# Altium integrated library Infineon_Power_Smart_Low-Side_&_High-Side_Switches.IntLib: 238 symbols (part 10 of 14)
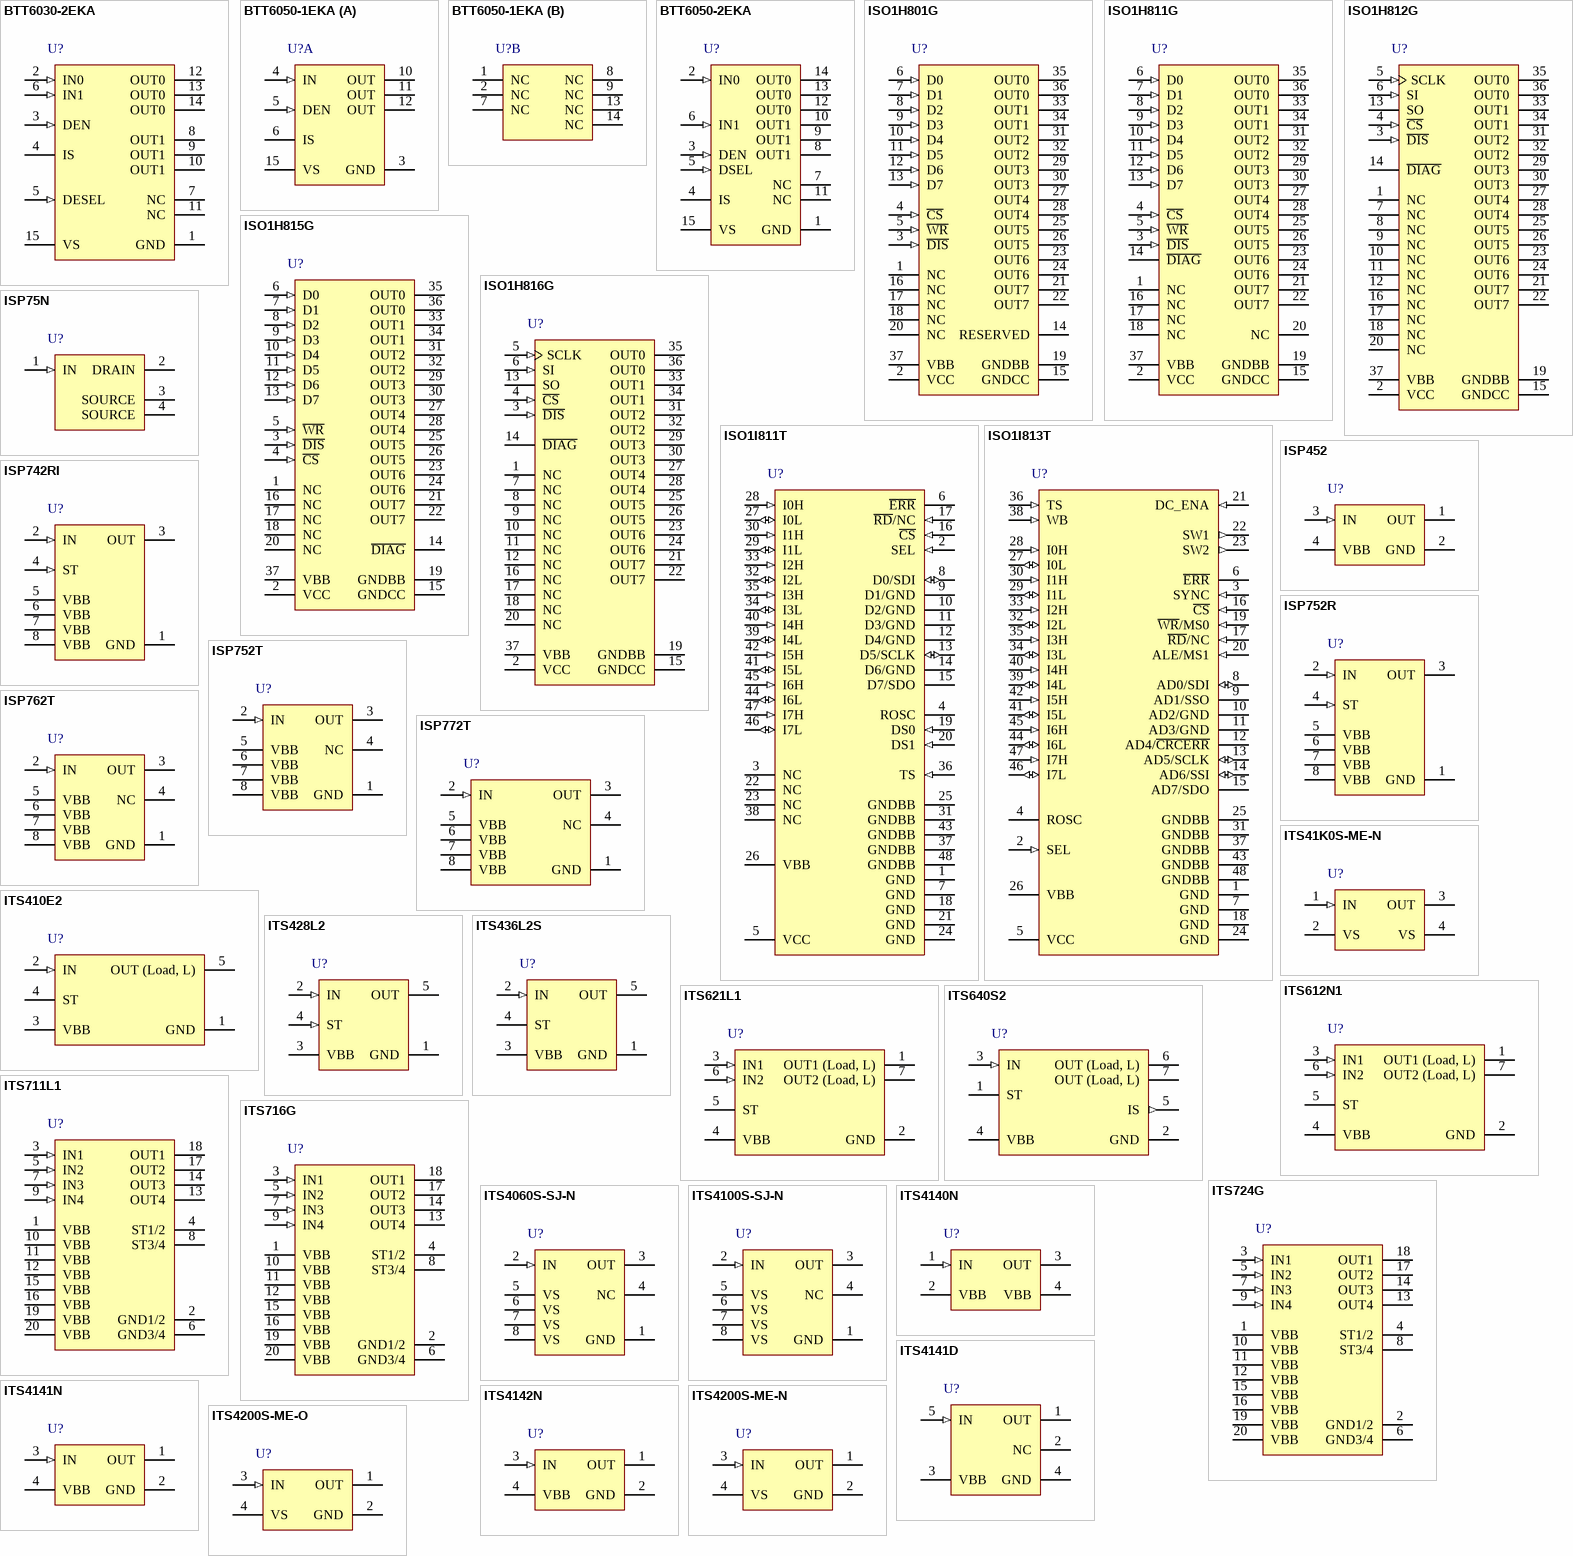
[diagram p16: symbols BTT6030-2EKA to ITS4200S-ME-O]

## ISO1H811G
designator U?
Galvanic Isolated 8 Channel High-Side Switch, -50 to 150 degC, PG-DSO-36-10, Reel, Green; Manufacturer: Infineon; PartNumber: ISO1H811G; Green: TRUE; DatasheetVersion: Rev. 2.4; PackageVersion: Rev. 2.0, 07/2007; PackageReference: PG-DSO-36-10; PackageDescription: 36-Pin Plastic (Green) Dual Small Outline Package, 15.9 x 11 mm, Pitch 0.65 mm; Supplier 1: Mouser; Supplier Part Number 1: 726-ISO1H811G; Supplier 2: Newark; Supplier Part Number 2: 78X5186; Supplier 3: Farnell; Supplier Part Number 3: 2432507; Supplier 4: Digi-Key; Supplier Part Number 4: ISO1H811GTR-ND; Supplier 5: Digi-Key; Supplier Part Number 5: ISO1H811GCT-ND; Supplier 6: Digi-Key; Supplier Part Number 6: ISO1H811GDKR-ND; Halogen-free: TRUE; Packing: Reel; Mounting Technology: Surface Mount; Code_JEDEC: J-STD-020; ComponentLink1Description: Manufacturer URL; ComponentLink1URL: http://www.infineon.com/; ComponentLink2Description: Datasheet; ComponentLink2URL: http://www.infineon.com/dgdl/Datasheet_ISO1H811G_V23.pdf?folderId=db3a30431b3e89eb011b8dbc543010a5&fileId=db3a304320896aa201208af1f76c0075; ComponentLink3Description: Package Specification; ComponentLink3URL: http://www.infineon.com/dgdl/TLE6280GP_DS_V20.pdf?folderId=db3a3043156fd5730116144c5d101c30&fileId=db3a304318f3fe290118f4abcb910003&sId=db3a30433e0d3017013e13ebcf6d0de4
footprint INF-PG-DSO-36-10_N (SOP, 36-Leads, Body 15.9x11mm, Pitch 0.65mm, Thermal Pad 15.84x6mm, IPC Medium Density)
footprint INF-PG-DSO-36-10_L (SOP, 36-Leads, Body 15.9x11mm, Pitch 0.65mm, Thermal Pad 15.84x6mm, IPC High Density)
footprint INF-PG-DSO-36-10_M (SOP, 36-Leads, Body 15.9x11mm, Pitch 0.65mm, Thermal Pad 15.84x6mm, IPC Low Density)
pins: 1 NC "Not connected", 2 VCC (power) "Positive 3.3/5V logic supply", 3 ~{DIS} (in) "Output disable", 4 ~{CS} (in) "Chip select", 5 ~{WR} (in) "Parallel write", 6 D0 (in) "Data input bit0", 7 D1 (in) "Data input bit1", 8 D2 (in) "Data input bit2", 9 D3 (in) "Data input bit3", 10 D4 (in) "Data input bit4", 11 D5 (in) "Data input bit5", 12 D6 (in) "Data input bit6", 13 D7 (in) "Data input bit7", 14 ~{DIAG} (oc) "Common diagnostic output for  overtemperature", 15 GNDCC (power) "Input logic ground", 16 NC "Not connected", 17 NC "Not connected", 18 NC "Not connected", 19 GNDBB (power) "Output driver ground", 20 NC "Not connected", 21 OUT7 (power) "High-side output of channel 7", 22 OUT7 (power) "High-side output of channel 7", 23 OUT6 (power) "High-side output of channel 6", 24 OUT6 (power) "High-side output of channel 6", 25 OUT5 (power) "High-side output of channel 5", 26 OUT5 (power) "High-side output of channel 5", 27 OUT4 (power) "High-side output of channel 4", 28 OUT4 (power) "High-side output of channel 4", 29 OUT3 (power) "High-side output of channel 3", 30 OUT3 (power) "High-side output of channel 3", 31 OUT2 (power) "High-side output of channel 2", 32 OUT2 (power) "High-side output of channel 2", 33 OUT1 (power) "High-side output of channel 1", 34 OUT1 (power) "High-side output of channel 1", 35 OUT0 (power) "High-side output of channel 0", 36 OUT0 (power) "High-side output of channel 0", 37 VBB (power) "Positive driver power supply voltage"

## ISO1H812G
designator U?
Galvanic Isolated 8 Channel High-Side Switch, -50 to 150 degC, PG-DSO-36-10, Reel, Green; Manufacturer: Infineon; PartNumber: ISO1H812G; Green: TRUE; DatasheetVersion: Rev. 2.5; PackageVersion: Rev. 2.0, 07/2007; PackageReference: PG-DSO-36-10; PackageDescription: 36-Pin Plastic (Green) Dual Small Outline Package, 15.9 x 11 mm, Pitch 0.65 mm; Supplier 1: Mouser; Supplier Part Number 1: 726-ISO1H812G; Supplier 2: Newark; Supplier Part Number 2: 78X5187; Supplier 3: Farnell; Supplier Part Number 3: 2432508; Supplier 4: Digi-Key; Supplier Part Number 4: ISO1H812GTR-ND; Supplier 5: Digi-Key; Supplier Part Number 5: ISO1H812GCT-ND; Supplier 6: Digi-Key; Supplier Part Number 6: ISO1H812GDKR-ND; Halogen-free: TRUE; Packing: Reel; Mounting Technology: Surface Mount; Code_JEDEC: J-STD-020; ComponentLink1Description: Manufacturer URL; ComponentLink1URL: http://www.infineon.com/; ComponentLink2Description: Datasheet; ComponentLink2URL: http://www.infineon.com/dgdl/Datasheet_ISO1H812G_V24.pdf?folderId=db3a30431b3e89eb011b8dbc543010a5&fileId=db3a304320896aa201208afa6861007a; ComponentLink3Description: Package Specification; ComponentLink3URL: http://www.infineon.com/dgdl/TLE6280GP_DS_V20.pdf?folderId=db3a3043156fd5730116144c5d101c30&fileId=db3a304318f3fe290118f4abcb910003&sId=db3a30433e0d3017013e13ebcf6d0de4
footprint INF-PG-DSO-36-10_N (SOP, 36-Leads, Body 15.9x11mm, Pitch 0.65mm, Thermal Pad 15.84x6mm, IPC Medium Density)
footprint INF-PG-DSO-36-10_L (SOP, 36-Leads, Body 15.9x11mm, Pitch 0.65mm, Thermal Pad 15.84x6mm, IPC High Density)
footprint INF-PG-DSO-36-10_M (SOP, 36-Leads, Body 15.9x11mm, Pitch 0.65mm, Thermal Pad 15.84x6mm, IPC Low Density)
pins: 1 NC "Not connected", 2 VCC (power) "Positive 3.3/5V logic supply", 3 ~{DIS} (in) "Output disable", 4 ~{CS} (in) "Chip select", 5 SCLK (in) "Serial Clock", 6 SI (in) "Serial Data input", 7 NC "Not connected", 8 NC "Not connected", 9 NC "Not connected", 10 NC "Not connected", 11 NC "Not connected", 12 NC "Not connected", 13 SO (hiz) "Serial Data Output", 14 ~{DIAG} (oc) "Common diagnostic output for  overtemperature", 15 GNDCC (power) "Input logic ground", 16 NC "Not connected", 17 NC "Not connected", 18 NC "Not connected", 19 GNDBB (power) "Output driver ground", 20 NC "Not connected", 21 OUT7 (power) "High-side output of channel 7", 22 OUT7 (power) "High-side output of channel 7", 23 OUT6 (power) "High-side output of channel 6", 24 OUT6 (power) "High-side output of channel 6", 25 OUT5 (power) "High-side output of channel 5", 26 OUT5 (power) "High-side output of channel 5", 27 OUT4 (power) "High-side output of channel 4", 28 OUT4 (power) "High-side output of channel 4", 29 OUT3 (power) "High-side output of channel 3", 30 OUT3 (power) "High-side output of channel 3", 31 OUT2 (power) "High-side output of channel 2", 32 OUT2 (power) "High-side output of channel 2", 33 OUT1 (power) "High-side output of channel 1", 34 OUT1 (power) "High-side output of channel 1", 35 OUT0 (power) "High-side output of channel 0", 36 OUT0 (power) "High-side output of channel 0", 37 VBB (power) "Positive driver power supply voltage"

## ISO1H815G
designator U?
Galvanic Isolated 8 Channel High-Side Switch, -50 to 150 degC, PG-DSO-36-10, Reel, Green; Manufacturer: Infineon; PartNumber: ISO1H815G; Green: TRUE; DatasheetVersion: Rev. 2.3; PackageVersion: Rev. 2.0, 07/2007; PackageReference: PG-DSO-36-10; PackageDescription: 36-Pin Plastic (Green) Dual Small Outline Package, 15.9 x 11 mm, Pitch 0.65 mm; Supplier 1: Mouser; Supplier Part Number 1: 726-ISO1H815G; Supplier 2: Newark; Supplier Part Number 2: 78X5188; Supplier 3: Farnell; Supplier Part Number 3: 2432509; Supplier 4: Digi-Key; Supplier Part Number 4: ISO1H815GTR-ND; Supplier 5: Digi-Key; Supplier Part Number 5: ISO1H815GCT-ND; Supplier 6: Digi-Key; Supplier Part Number 6: ISO1H815GDKR-ND; Halogen-free: TRUE; Packing: Reel; Mounting Technology: Surface Mount; Code_JEDEC: J-STD-020; ComponentLink1Description: Manufacturer URL; ComponentLink1URL: http://www.infineon.com/; ComponentLink2Description: Datasheet; ComponentLink2URL: http://www.infineon.com/dgdl/Datasheet_ISO1H815G_V22.pdf?folderId=db3a30431b3e89eb011b8dbc543010a5&fileId=db3a304320d39d590120f6ed7d956a76; ComponentLink3Description: Package Specification; ComponentLink3URL: http://www.infineon.com/dgdl/TLE6280GP_DS_V20.pdf?folderId=db3a3043156fd5730116144c5d101c30&fileId=db3a304318f3fe290118f4abcb910003&sId=db3a30433e0d3017013e13ebcf6d0de4
footprint INF-PG-DSO-36-10_N (SOP, 36-Leads, Body 15.9x11mm, Pitch 0.65mm, Thermal Pad 15.84x6mm, IPC Medium Density)
footprint INF-PG-DSO-36-10_L (SOP, 36-Leads, Body 15.9x11mm, Pitch 0.65mm, Thermal Pad 15.84x6mm, IPC High Density)
footprint INF-PG-DSO-36-10_M (SOP, 36-Leads, Body 15.9x11mm, Pitch 0.65mm, Thermal Pad 15.84x6mm, IPC Low Density)
pins: 1 NC "Not connected", 2 VCC (power) "Positive 3.3/5V logic supply", 3 ~{DIS} (in) "Output disable", 4 ~{CS} (in) "Chip select", 5 ~{WR} (in) "Parallel write", 6 D0 (in) "Data input bit0", 7 D1 (in) "Data input bit1", 8 D2 (in) "Data input bit2", 9 D3 (in) "Data input bit3", 10 D4 (in) "Data input bit4", 11 D5 (in) "Data input bit5", 12 D6 (in) "Data input bit6", 13 D7 (in) "Data input bit7", 14 ~{DIAG} (oc) "Common diagnostic output for  overtemperature", 15 GNDCC (power) "Input logic ground", 16 NC "Not connected", 17 NC "Not connected", 18 NC "Not connected", 19 GNDBB (power) "Output driver ground", 20 NC "Not connected", 21 OUT7 (power) "High-side output of channel 7", 22 OUT7 (power) "High-side output of channel 7", 23 OUT6 (power) "High-side output of channel 6", 24 OUT6 (power) "High-side output of channel 6", 25 OUT5 (power) "High-side output of channel 5", 26 OUT5 (power) "High-side output of channel 5", 27 OUT4 (power) "High-side output of channel 4", 28 OUT4 (power) "High-side output of channel 4", 29 OUT3 (power) "High-side output of channel 3", 30 OUT3 (power) "High-side output of channel 3", 31 OUT2 (power) "High-side output of channel 2", 32 OUT2 (power) "High-side output of channel 2", 33 OUT1 (power) "High-side output of channel 1", 34 OUT1 (power) "High-side output of channel 1", 35 OUT0 (power) "High-side output of channel 0", 36 OUT0 (power) "High-side output of channel 0", 37 VBB (power) "Positive driver power supply voltage"

## ISO1H816G
designator U?
Galvanic Isolated 8 Channel High-Side Switch, -50 to 150 degC, PG-DSO-36-10, Reel, Green; Manufacturer: Infineon; PartNumber: ISO1H816G; Green: TRUE; DatasheetVersion: Rev. 2.3; PackageVersion: Rev. 2.0, 07/2007; PackageReference: PG-DSO-36-10; PackageDescription: 36-Pin Plastic (Green) Dual Small Outline Package, 15.9 x 11 mm, Pitch 0.65 mm; Supplier 1: Mouser; Supplier Part Number 1: 726-ISO1H816G; Supplier 2: Newark; Supplier Part Number 2: 78X5189; Supplier 3: Farnell; Supplier Part Number 3: 2432510; Supplier 4: Digi-Key; Supplier Part Number 4: ISO1H816GTR-ND; Supplier 5: Digi-Key; Supplier Part Number 5: ISO1H816GCT-ND; Supplier 6: Digi-Key; Supplier Part Number 6: ISO1H816GDKR-ND; Halogen-free: TRUE; Packing: Reel; Mounting Technology: Surface Mount; Code_JEDEC: J-STD-020; ComponentLink1Description: Manufacturer URL; ComponentLink1URL: http://www.infineon.com/; ComponentLink2Description: Datasheet; ComponentLink2URL: http://www.infineon.com/dgdl/Datasheet_ISO1H816G_V22.pdf?folderId=db3a30431b3e89eb011b8dbc543010a5&fileId=db3a304320d39d590120f700bb736a89; ComponentLink3Description: Package Specification; ComponentLink3URL: http://www.infineon.com/dgdl/TLE6280GP_DS_V20.pdf?folderId=db3a3043156fd5730116144c5d101c30&fileId=db3a304318f3fe290118f4abcb910003&sId=db3a30433e0d3017013e13ebcf6d0de4
footprint INF-PG-DSO-36-10_N (SOP, 36-Leads, Body 15.9x11mm, Pitch 0.65mm, Thermal Pad 15.84x6mm, IPC Medium Density)
footprint INF-PG-DSO-36-10_L (SOP, 36-Leads, Body 15.9x11mm, Pitch 0.65mm, Thermal Pad 15.84x6mm, IPC High Density)
footprint INF-PG-DSO-36-10_M (SOP, 36-Leads, Body 15.9x11mm, Pitch 0.65mm, Thermal Pad 15.84x6mm, IPC Low Density)
pins: 1 NC "Not connected", 2 VCC (power) "Positive 3.3/5V logic supply", 3 ~{DIS} (in) "Output disable", 4 ~{CS} (in) "Chip select", 5 SCLK (in) "Serial Clock", 6 SI (in) "Serial Data input", 7 NC "Not connected", 8 NC "Not connected", 9 NC "Not connected", 10 NC "Not connected", 11 NC "Not connected", 12 NC "Not connected", 13 SO (hiz) "Serial Data Output", 14 ~{DIAG} (oc) "Common diagnostic output for  overtemperature", 15 GNDCC (power) "Input logic ground", 16 NC "Not connected", 17 NC "Not connected", 18 NC "Not connected", 19 GNDBB (power) "Output driver ground", 20 NC "Not connected", 21 OUT7 (power) "High-side output of channel 7", 22 OUT7 (power) "High-side output of channel 7", 23 OUT6 (power) "High-side output of channel 6", 24 OUT6 (power) "High-side output of channel 6", 25 OUT5 (power) "High-side output of channel 5", 26 OUT5 (power) "High-side output of channel 5", 27 OUT4 (power) "High-side output of channel 4", 28 OUT4 (power) "High-side output of channel 4", 29 OUT3 (power) "High-side output of channel 3", 30 OUT3 (power) "High-side output of channel 3", 31 OUT2 (power) "High-side output of channel 2", 32 OUT2 (power) "High-side output of channel 2", 33 OUT1 (power) "High-side output of channel 1", 34 OUT1 (power) "High-side output of channel 1", 35 OUT0 (power) "High-side output of channel 0", 36 OUT0 (power) "High-side output of channel 0", 37 VBB (power) "Positive driver power supply voltage"

## ISO1I811T
designator U?
Isolated 8 Channel Digital Input with IEC61131-2 Type 1/2/3 Characteristics, -40 to 125 degC, PG-TSSOP-48-2, Reel, Green; Manufacturer: Infineon; PartNumber: ISO1I811T; Green: TRUE; DatasheetVersion: Rev. 2.0; PackageVersion: Rev. 03, 06/2011; PackageReference: PG-TSSOP-48-2; PackageDescription: 48-Pin Plastic (Green) Thin Shrink Small Outline Package, 12.5 x 6.1 mm Body, 0.5 mm Pitch; Supplier 1: Newark; Supplier Part Number 1: 78X5190; Supplier 2: Farnell; Supplier Part Number 2: 2432511; Supplier 3: Digi-Key; Supplier Part Number 3: ISO1I811TTR-ND; Supplier 4: Digi-Key; Supplier Part Number 4: ISO1I811TCT-ND; Supplier 5: Digi-Key; Supplier Part Number 5: ISO1I811TDKR-ND; Halogen-free: TRUE; Packing: Reel; Mounting Technology: Surface Mount; ComponentLink1Description: Manufacturer URL; ComponentLink1URL: http://www.infineon.com/; ComponentLink2Description: Datasheet; ComponentLink2URL: http://www.infineon.com/dgdl/ISO1I811T_DS_V20.pdf?folderId=db3a30431b3e89eb011b8dbc543010a5&fileId=db3a30432ea425a4012ed83864253845; ComponentLink3Description: Package Specification; ComponentLink3URL: http://www.infineon.com/dgdl/ISO1I811T_DS_V20.pdf?folderId=db3a30431b3e89eb011b8dbc543010a5&fileId=db3a30432ea425a4012ed83864253845
footprint INF-PG-TSSOP-48-2_N (SOP, 48-Leads, Body 12.5x6.1mm, Pitch 0.5mm, IPC Medium Density)
footprint INF-PG-TSSOP-48-2_L (SOP, 48-Leads, Body 12.5x6.1mm, Pitch 0.5mm, IPC High Density)
footprint INF-PG-TSSOP-48-2_M (SOP, 48-Leads, Body 12.5x6.1mm, Pitch 0.5mm, IPC Low Density)
pins: 1 GND (power) "Logic Ground", 2 SEL (in) "Serial Parallel Mode Select", 3 NC "not connected", 4 ROSC "Clock Frequency Adjustment", 5 VCC (power) "Positive 5/3.3V logic supply", 6 ~{ERR} (oc) "Error output", 7 GND (power) "Logic Ground", 8 D0/SDI (io), 9 D1/GND (hiz), 10 D2/GND (hiz), 11 D3/GND (hiz), 12 D4/GND (hiz), 13 D5/SCLK (io), 14 D6/GND (hiz), 15 D7/SDO (hiz), 16 ~{CS} (in) "Chip Select", 17 ~{RD}/NC (in), 18 GND (power) "Logic Ground", 19 DS0 (in) "Filter Select Input 0", 20 DS1 (in) "Filter Select Input 1", 21 GND (power) "Logic Ground", 22 NC "not connected", 23 NC "not connected", 24 GND (power) "Logic Ground", 25 GNDBB (power) "Input Ground", 26 VBB (power) "Positive input supply voltage", 27 I0L (io) "Input 0 Low, LED Out", 28 I0H (in) "Input 0 High", 29 I1L (io) "Input 1 Low, LED Out", 30 I1H (in) "Input 1 High", 31 GNDBB (power) "Input Ground", 32 I2L (io) "Input 2 Low, LED Out", 33 I2H (in) "Input 2 High", 34 I3L (io) "Input 3 Low, LED Out", 35 I3H (in) "Input 3 High", 36 TS (in) "Sensor Type 1/2/3 Select", 37 GNDBB (power) "Input Ground", 38 NC "not connected", 39 I4L (io) "Input 4 Low, LED Out", 40 I4H (in) "Input 4 High", 41 I5L (io) "Input 5 Low, LED Out", 42 I5H (in) "Input 5 High", 43 GNDBB (power) "Input Ground", 44 I6L (io) "Input 6 Low, LED Out", 45 I6H (in) "Input 6 High", 46 I7L (io) "Input 7 Low, LED Out", 47 I7H (in) "Input 7 High", 48 GNDBB (power) "Input Ground"

## ISO1I813T
designator U?
Isolated 8 Channel Digital Input with IEC61131-2 Type 1/2/3 Characteristics, -40 to 125 degC, PG-TSSOP-48-2, Reel, Green; Manufacturer: Infineon; PartNumber: ISO1I813T; Green: TRUE; DatasheetVersion: Rev. 2.0; PackageVersion: Rev. 03, 06/2011; PackageReference: PG-TSSOP-48-2; PackageDescription: 48-Pin Plastic (Green) Thin Shrink Small Outline Package, 12.5 x 6.1 mm Body, 0.5 mm Pitch; Supplier 1: Newark; Supplier Part Number 1: 78X5191; Supplier 2: Farnell; Supplier Part Number 2: 2432512; Supplier 3: Digi-Key; Supplier Part Number 3: ISO1I813TTR-ND; Supplier 4: Digi-Key; Supplier Part Number 4: ISO1I813TCT-ND; Supplier 5: Digi-Key; Supplier Part Number 5: ISO1I813TDKR-ND; Halogen-free: TRUE; Packing: Reel; Mounting Technology: Surface Mount; ComponentLink1Description: Manufacturer URL; ComponentLink1URL: http://www.infineon.com/; ComponentLink2Description: Datasheet; ComponentLink2URL: http://www.infineon.com/dgdl/Preliminary_Datasheet_ISO1I813T_V10.pdf?folderId=db3a30431b3e89eb011b8dbc543010a5&fileId=db3a30432ee77f32012f0ae5c60a10fe; ComponentLink3Description: Package Specification; ComponentLink3URL: http://www.infineon.com/dgdl/ISO1I811T_DS_V20.pdf?folderId=db3a30431b3e89eb011b8dbc543010a5&fileId=db3a30432ea425a4012ed83864253845
footprint INF-PG-TSSOP-48-2_N (SOP, 48-Leads, Body 12.5x6.1mm, Pitch 0.5mm, IPC Medium Density)
footprint INF-PG-TSSOP-48-2_L (SOP, 48-Leads, Body 12.5x6.1mm, Pitch 0.5mm, IPC High Density)
footprint INF-PG-TSSOP-48-2_M (SOP, 48-Leads, Body 12.5x6.1mm, Pitch 0.5mm, IPC Low Density)
pins: 1 GND (power) "Logic Ground", 2 SEL (in) "Serial Parallel Mode Select", 3 SYNC (in) "Freeze Data & Diagnostics", 4 ROSC "Clock Frequency Adjustment", 5 VCC (power) "Positive 5/3.3V logic supply", 6 ~{ERR} (oc) "Error output", 7 GND (power) "Logic Ground", 8 AD0/SDI (io), 9 AD1/SSO (hiz), 10 AD2/GND (hiz), 11 AD3/GND (hiz), 12 AD4/~{CRCERR} (hiz), 13 AD5/SCLK (io), 14 AD6/SSI (io), 15 AD7/SDO (hiz), 16 ~{CS} (in) "Chip Select", 17 ~{RD}/NC (in), 18 GND (power) "Logic Ground", 19 ~{WR}/MS0 (in), 20 ALE/MS1 (in), 21 DC_ENA (in) "DC-DC Supply Enable", 22 SW1 (out) "DC-DC Switch Output 1", 23 SW2 (out) "DC-DC Switch Output 2", 24 GND (power) "Logic Ground", 25 GNDBB (power) "Input Ground", 26 VBB (power) "Positive input supply voltage", 27 I0L (io) "Input 0 Low, LED Out", 28 I0H (in) "Input 0 High", 29 I1L (io) "Input 1 Low, LED Out", 30 I1H (in) "Input 1 High", 31 GNDBB (power) "Input Ground", 32 I2L (io) "Input 2 Low, LED Out", 33 I2H (in) "Input 2 High", 34 I3L (io) "Input 3 Low, LED Out", 35 I3H (in) "Input 3 High", 36 TS (in) "Sensor Type 1/2/3 Select", 37 GNDBB (power) "Input Ground", 38 WB (in) "Wire Break Select", 39 I4L (io) "Input 4 Low, LED Out", 40 I4H (in) "Input 4 High", 41 I5L (io) "Input 5 Low, LED Out", 42 I5H (in) "Input 5 High", 43 GNDBB (power) "Input Ground", 44 I6L (io) "Input 6 Low, LED Out", 45 I6H (in) "Input 6 High", 46 I7L (io) "Input 7 Low, LED Out", 47 I7H (in) "Input 7 High", 48 GNDBB (power) "Input Ground"

## ISP75N
designator U?
Smart Lowside Power Switch for Industrial Applications, -40 to 150 degC, PG-SOT223-4, Reel, Green; Manufacturer: Infineon; PartNumber: ISP75N; Green: TRUE; DatasheetVersion: Rev. 1.4; PackageVersion: Apr-08; PackageReference: PG-SOT223-4; PackageDescription: 4-Pin Small Outline Transistor Package, 6.5 x 3.5 mm Body, 2.3 mm Pitch; Supplier 1: Mouser; Supplier Part Number 1: 726-ISP75N; Supplier 2: Digi-Key; Supplier Part Number 2: ISP75N-ND; Halogen-free: FALSE; Packing: Reel; Mounting Technology: Surface Mount; ComponentLink1Description: Manufacturer URL; ComponentLink1URL: http://www.infineon.com/; ComponentLink2Description: Datasheet; ComponentLink2URL: http://www.infineon.com/dgdl/ISP75N_DS_14.pdf?folderId=db3a3043163797a6011667aa084c0e01&fileId=db3a304319c6f18c0119c7b3a368001c&location=en.Products.Automotive_ICs.Smart_High-_and_Low-Side_Switches.HITFET___TEMPFET__-_Smart_Low-Side_Switches.DATASHEET.ISP75N_DS_14.pdf; ComponentLink3Description: Package Specification; ComponentLink3URL: http://www.infineon.com/dgdl/BTS3134N_DS_13.pdf?folderId=db3a3043163797a6011667aa084c0e01&fileId=db3a3043271faefd01274cf69aba5d29&location=en.Products.Automotive_ICs.Smart_High-_and_Low-Side_Switches.HITFET___TEMPFET__-_Smart_Low-Side_Switches.DATASHEET.BTS3134N_DS_13.pdf
footprint INF-PG-SOT223-4_N (SOT223, 4-Leads, Body 6.5x3.5mm, Pitch 2.3mm, IPC Medium Density)
footprint INF-PG-SOT223-4_L (SOT223, 4-Leads, Body 6.5x3.5mm, Pitch 2.3mm, IPC High Density)
footprint INF-PG-SOT223-4_M (SOT223, 4-Leads, Body 6.5x3.5mm, Pitch 2.3mm, IPC Low Density)
pins: 1 IN (in) "Input;activates output and supplies internal logic", 2 DRAIN (power) "Output to the load", 3 SOURCE (power) "Ground;pin3 and TAB are internally connected", 4 SOURCE (power) "Ground;pin3 and TAB are internally connected"

## ISP452
designator U?
Smart Power High-Side-Switch for Industrial Applications, 5 to 34 V Operating, -30 to 85 degC, SOT223, Reel, Green; Manufacturer: Infineon; PartNumber: ISP452; Channels: 1; Green: TRUE; IL (nom)min - all channels active: 0.7 A; IL (nom)min - one channel active: 0.8 A; IL (SC): 1.5 A; Operating Voltage Range (max): 34 V; Operating Voltage Range (min): 5 V; Ptot (max): 1.8 W; RON (max) @ Tj max: 400 mOhm; RON @ 25 degC: 200 mOhm (max); toff (max): 150 us; ton (max): 100 us; PackageVersion: Apr-08; PackageReference: SOT223; PackageDescription: 4-Pin Small Outline Transistor Package, 6.5 x 3.5 mm Body, 2.3 mm Pitch; Supplier 1: Mouser; Supplier Part Number 1: 726-ISP452; Supplier 2: Newark; Supplier Part Number 2: 47W3486; Supplier 3: Farnell; Supplier Part Number 3: 2215484; Supplier 4: Digi-Key; Supplier Part Number 4: ISP452TR-ND; Supplier 5: Digi-Key; Supplier Part Number 5: ISP452CT-ND; Supplier 6: Digi-Key; Supplier Part Number 6: ISP452DKR-ND; IL (SCp): 1.5 A; Load Current (typ): 0.7 A; Packing: Reel; Mounting Technology: Surface Mount; ComponentLink1Description: Manufacturer URL; ComponentLink1URL: http://www.infineon.com/; ComponentLink2Description: Datasheet; ComponentLink2URL: http://www.infineon.com/dgdl/ISP452_20060301.pdf?folderId=db3a304412b407950112b408e8c90004&fileId=db3a304412b407950112b42957ef40c3; ComponentLink3Description: Package Specification; ComponentLink3URL: http://www.infineon.com/dgdl/SOT223-Package_Overview.pdf?folderId=db3a30431936bc4b0119530470b03c3d&fileId=db3a30431936bc4b0119531d40b93c5c
footprint INF-SOT223_N (SOT223, 4-Leads, Body 6.5x3.5mm, Pitch 2.3mm, IPC Medium Density)
footprint INF-SOT223_L (SOT223, 4-Leads, Body 6.5x3.5mm, Pitch 2.3mm, IPC High Density)
footprint INF-SOT223_M (SOT223, 4-Leads, Body 6.5x3.5mm, Pitch 2.3mm, IPC Low Density)
pins: 1 OUT (power) "Protected high-side power output", 2 GND (power) "Logic ground", 3 IN (in) "Input, activates the power switch in case of logical high signal", 4 VBB (power) "Positive power supply voltage"

## ISP742RI
designator U?
Smart Power High-Side-Switch for Industrial Applications, 5 to 34 V Operating, -30 to 85 degC, PG-DSO-8-24, Reel, Green; Manufacturer: Infineon; PartNumber: ISP742RI; Channels: 1; Diagnostic: Digital; Green: TRUE; IL (nom)min - all channels active: 0.8 A; IL (SC): 4 A; Load Current (typ): 1.1 A; Operating Voltage Range (max): 34 V; Operating Voltage Range (min): 5 V; Ptot (max): 1.5 W; RON (max) @ Tj max: 700 mOhm; RON @ 25 degC: 350 mOhm (max); toff (max): 170 us; ton (max): 140 us; DatasheetVersion: Rev. 1.1; PackageVersion: May-07; PackageReference: PG-DSO-8-24; PackageDescription: 8-Pin Plastic (Green) Dual Small Outline Package, 4.9 x 3.9 mm Body, 1.27 mm Pitch; Supplier 1: Mouser; Supplier Part Number 1: 726-ISP742RI; Supplier 2: Newark; Supplier Part Number 2: 47W3487; Supplier 3: Farnell; Supplier Part Number 3: 2215519; Supplier 4: Digi-Key; Supplier Part Number 4: ISP742RITR-ND; Supplier 5: Digi-Key; Supplier Part Number 5: ISP742RICT-ND; Supplier 6: Digi-Key; Supplier Part Number 6: ISP742RIDKR-ND; Halogen-free: available; IL (nom)min - one channel active: 0.8 A; IL (SCp): 4 A; Packing: Reel; Mounting Technology: Surface Mount; ComponentLink1Description: Manufacturer URL; ComponentLink1URL: http://www.infineon.com/; ComponentLink2Description: Datasheet; ComponentLink2URL: http://www.infineon.com/dgdl/ISP742RI_DS_11.pdf?folderId=db3a304412b407950112b408e8c90004&fileId=db3a304412b407950112b429555440bf; ComponentLink3Description: Package Specification; ComponentLink3URL: http://www.infineon.com/dgdl/BSP742RI.pdf?folderId=db3a304314dca389011537739e37155f&fileId=db3a304316f112290116f22466b271a6&sId=db3a30433d68e984013d83055b4a7981
footprint INF-PG-DSO-8-24_N (SOP, 8-Leads, Body 4.9x3.9mm, Pitch 1.27mm, IPC Medium Density)
footprint INF-PG-DSO-8-24_L (SOP, 8-Leads, Body 4.9x3.9mm, Pitch 1.27mm, IPC High Density)
footprint INF-PG-DSO-8-24_M (SOP, 8-Leads, Body 4.9x3.9mm, Pitch 1.27mm, IPC Low Density)
pins: 1 GND (power) "Logic ground", 2 IN (in) "Input, activates the power switch in case of logic high signal", 3 OUT (power) "Output to the load", 4 ST (in) "Diagnostic feedback", 5 VBB (power) "Positive power supply voltage", 6 VBB (power) "Positive power supply voltage", 7 VBB (power) "Positive power supply voltage", 8 VBB (power) "Positive power supply voltage"

## ISP752R
designator U?
Smart Power High-Side-Switch for Industrial Applications, 6 to 52 V Operating, -30 to 85 degC, PG-DSO-8-24, Reel, Green; Manufacturer: Infineon; PartNumber: ISP752R; Channels: 1; Diagnostic: Digital; Green: TRUE; IL (nom)min - all channels active: 1.3 A; IL (SC): 6.5 A; Operating Voltage Range (max): 52 V; Operating Voltage Range (min): 6 V; Ptot (max): 1.5 W; RON (max) @ Tj max: 380 mOhm; RON @ 25 degC: 200 mOhm (max); toff (max): 200 us; ton (max): 180 us; DatasheetVersion: Rev. 1.1; PackageVersion: May-07; PackageReference: PG-DSO-8-24; PackageDescription: 8-Pin Plastic (Green) Dual Small Outline Package, 4.9 x 3.9 mm Body, 1.27 mm Pitch; Supplier 1: Mouser; Supplier Part Number 1: 726-ISP752R; Supplier 2: Newark; Supplier Part Number 2: 58M7526; Supplier 3: Farnell; Supplier Part Number 3: 1440817RL; Supplier 4: Farnell; Supplier Part Number 4: 1440817; Supplier 5: Digi-Key; Supplier Part Number 5: ISP752RTR-ND; Supplier 6: Digi-Key; Supplier Part Number 6: ISP752RCT-ND; Supplier 7: Digi-Key; Supplier Part Number 7: ISP752RDKR-ND; Halogen-free: available; IL (nom)min - one channel active: 1.3 A; IL (SCp): 6.5 A; Load Current (typ): 1.3 A; Packing: Reel; Mounting Technology: Surface Mount; ComponentLink1Description: Manufacturer URL; ComponentLink1URL: http://www.infineon.com/; ComponentLink2Description: Datasheet; ComponentLink2URL: http://www.infineon.com/dgdl/ISP752R_DS_11.pdf?folderId=db3a304412b407950112b408e8c90004&fileId=db3a304412b407950112b4295d1040cb; ComponentLink3Description: Package Specification; ComponentLink3URL: http://www.infineon.com/dgdl/BSP742RI.pdf?folderId=db3a304314dca389011537739e37155f&fileId=db3a304316f112290116f22466b271a6&sId=db3a30433d68e984013d83055b4a7981
footprint INF-PG-DSO-8-24_N (SOP, 8-Leads, Body 4.9x3.9mm, Pitch 1.27mm, IPC Medium Density)
footprint INF-PG-DSO-8-24_L (SOP, 8-Leads, Body 4.9x3.9mm, Pitch 1.27mm, IPC High Density)
footprint INF-PG-DSO-8-24_M (SOP, 8-Leads, Body 4.9x3.9mm, Pitch 1.27mm, IPC Low Density)
pins: 1 GND (power) "Logic ground", 2 IN (in) "Input, activates the power switch in case of logic high signal", 3 OUT (power) "Output to the load", 4 ST (in) "Diagnostic feedback", 5 VBB (power) "Positive power supply voltage", 6 VBB (power) "Positive power supply voltage", 7 VBB (power) "Positive power supply voltage", 8 VBB (power) "Positive power supply voltage"

## ISP752T
designator U?
Smart Power High-Side-Switch for Industrial Applications, 6 to 52 V Operating, -30 to 85 degC, PG-DSO-8-24, Reel, Green; Manufacturer: Infineon; PartNumber: ISP752T; Channels: 1; Green: TRUE; IL (nom)min - all channels active: 1.3 A; IL (SC): 6.5 A; Operating Voltage Range (max): 52 V; Operating Voltage Range (min): 6 V; Ptot (max): 1.5 W; RON (max) @ Tj max: 380 mOhm; RON @ 25 degC: 200 mOhm (max); toff (max): 200 us; ton (max): 180 us; DatasheetVersion: Rev. 1.1; PackageVersion: May-07; PackageReference: PG-DSO-8-24; PackageDescription: 8-Pin Plastic (Green) Dual Small Outline Package, 4.9 x 3.9 mm Body, 1.27 mm Pitch; Supplier 1: Mouser; Supplier Part Number 1: 726-ISP752T; Supplier 2: Newark; Supplier Part Number 2: 78X5192; Supplier 3: Farnell; Supplier Part Number 3: 2432513; Supplier 4: Digi-Key; Supplier Part Number 4: ISP752TTR-ND; Supplier 5: Digi-Key; Supplier Part Number 5: ISP752TCT-ND; Supplier 6: Digi-Key; Supplier Part Number 6: ISP752TDKR-ND; Halogen-free: available; IL (nom)min - one channel active: 1.3 A; IL (SCp): 6.5 A; Load Current (typ): 1.3 A; Packing: Reel; Mounting Technology: Surface Mount; ComponentLink1Description: Manufacturer URL; ComponentLink1URL: http://www.infineon.com/; ComponentLink2Description: Datasheet; ComponentLink2URL: http://www.infineon.com/dgdl/ISP752T_DS_11.pdf?folderId=db3a304412b407950112b408e8c90004&fileId=db3a304412b407950112b42991eb4134; ComponentLink3Description: Package Specification; ComponentLink3URL: http://www.infineon.com/dgdl/BSP742RI.pdf?folderId=db3a304314dca389011537739e37155f&fileId=db3a304316f112290116f22466b271a6&sId=db3a30433d68e984013d83055b4a7981
footprint INF-PG-DSO-8-24_N (SOP, 8-Leads, Body 4.9x3.9mm, Pitch 1.27mm, IPC Medium Density)
footprint INF-PG-DSO-8-24_L (SOP, 8-Leads, Body 4.9x3.9mm, Pitch 1.27mm, IPC High Density)
footprint INF-PG-DSO-8-24_M (SOP, 8-Leads, Body 4.9x3.9mm, Pitch 1.27mm, IPC Low Density)
pins: 1 GND (power) "Logic ground", 2 IN (in) "Input, activates the power sitch in case of logic high signal", 3 OUT (power) "Output to the load", 4 NC "not connected", 5 VBB (power) "Positive power supply voltage", 6 VBB (power) "Positive power supply voltage", 7 VBB (power) "Positive power supply voltage", 8 VBB (power) "Positive power supply voltage"

## ISP762T
designator U?
Smart Power High-Side-Switch, 5 to 34 V Operating, -30 to 85 degC, PG-DSO-8-3, Reel, Green; Manufacturer: Infineon; PartNumber: ISP762T; Channels: 1; Green: TRUE; IL (nom)min - all channels active: 2.4 A; IL (nom)min - one channel active: 2 A; IL (SC): 10 A; Operating Voltage Range (max): 34 V; Operating Voltage Range (min): 5 V; Ptot (max): 1.5 W; RON (max) @ Tj max: 200 mOhm; RON @ 25 degC: 100 mOhm (max); toff (max): 230 us; ton (max): 170 us; DatasheetVersion: Rev. 1.4; PackageReference: PG-DSO-8-3; PackageDescription: 8-Pin Plastic (Green) Dual Small Outline Package, 4.9 x 3.9 mm Body, 1.27 mm Pitch; Supplier 1: Mouser; Supplier Part Number 1: 726-ISP762T; Supplier 2: Newark; Supplier Part Number 2: 47W3488; Supplier 3: Farnell; Supplier Part Number 3: 2215501; Supplier 4: Digi-Key; Supplier Part Number 4: ISP762TTR-ND; Supplier 5: Digi-Key; Supplier Part Number 5: ISP762TCT-ND; Supplier 6: Digi-Key; Supplier Part Number 6: ISP762TDKR-ND; Halogen-free: available; IL (SCp): 10 A; Load Current (typ): 2.4 A; Packing: Reel; Mounting Technology: Surface Mount; ComponentLink1Description: Manufacturer URL; ComponentLink1URL: http://www.infineon.com/; ComponentLink2Description: Datasheet; ComponentLink2URL: http://www.infineon.com/dgdl/ISP762T_20121201_Secured.pdf?folderId=db3a304412b407950112b408e8c90004&fileId=db3a304412b407950112b428ef533ebd; ComponentLink3Description: Package Specification; ComponentLink3URL: http://www.infineon.com/cms/packages/SMD_-_Surface_Mounted_Devices/P-PG-DSO/P-PG-DSO-08-03x_-6x_-7x_-8x_-10x_-13x_-15x_-18x_-19x_-20x_-23.html?__locale=en
footprint INF-PG-DSO-8-3_N (SOP, 8-Leads, Body 4.9x3.9mm, Pitch 1.27mm, IPC Medium Density)
footprint INF-PG-DSO-8-3_L (SOP, 8-Leads, Body 4.9x3.9mm, Pitch 1.27mm, IPC High Density)
footprint INF-PG-DSO-8-3_M (SOP, 8-Leads, Body 4.9x3.9mm, Pitch 1.27mm, IPC Low Density)
pins: 1 GND (power) "Logic ground", 2 IN (in) "Input, activates the power switch in case of logic high signal", 3 OUT (power) "Output to the load", 4 NC "Not connected", 5 VBB (power) "Positive power supply voltage", 6 VBB (power) "Positive power supply voltage", 7 VBB (power) "Positive power supply voltage", 8 VBB (power) "Positive power supply voltage"

## ISP772T
designator U?
Smart Power High-Side-Switch for Industrial Applications, 5 to 34 V Operating, -30 to 85 degC, PG-DSO-8-24, Reel, Green; Manufacturer: Infineon; PartNumber: ISP772T; Channels: 1; Green: TRUE; IL (nom)min - all channels active: 2.6 A; IL (SC): 17 A; Load Current (typ): 3.1 A; Operating Voltage Range (max): 34 V; Operating Voltage Range (min): 5 V; Ptot (max): 1.5 W; RON (max) @ Tj max: 120 mOhm; RON @ 25 degC: 60 mOhm (max); toff (max): 230 us; ton (max): 180 us; DatasheetVersion: Rev. 1.1; PackageVersion: May-07; PackageReference: PG-DSO-8-24; PackageDescription: 8-Pin Plastic (Green) Dual Small Outline Package, 4.9 x 3.9 mm Body, 1.27 mm Pitch; Supplier 1: Mouser; Supplier Part Number 1: 726-ISP772T; Supplier 2: Newark; Supplier Part Number 2: 47W3489; Supplier 3: Farnell; Supplier Part Number 3: 2215492; Supplier 4: Digi-Key; Supplier Part Number 4: ISP772TTR-ND; Supplier 5: Digi-Key; Supplier Part Number 5: ISP772TCT-ND; Supplier 6: Digi-Key; Supplier Part Number 6: ISP772TDKR-ND; Halogen-free: available; IL (nom)min - one channel active: 2.6 A; IL (SCp): 17 A; Packing: Reel; Mounting Technology: Surface Mount; ComponentLink1Description: Manufacturer URL; ComponentLink1URL: http://www.infineon.com/; ComponentLink2Description: Datasheet; ComponentLink2URL: http://www.infineon.com/dgdl/ISP772T_DS_11_20080929.pdf?folderId=db3a304412b407950112b408e8c90004&fileId=db3a304412b407950112b4295a6f40c7; ComponentLink3Description: Package Specification; ComponentLink3URL: http://www.infineon.com/dgdl/BSP742RI.pdf?folderId=db3a304314dca389011537739e37155f&fileId=db3a304316f112290116f22466b271a6&sId=db3a30433d68e984013d83055b4a7981
footprint INF-PG-DSO-8-24_N (SOP, 8-Leads, Body 4.9x3.9mm, Pitch 1.27mm, IPC Medium Density)
footprint INF-PG-DSO-8-24_L (SOP, 8-Leads, Body 4.9x3.9mm, Pitch 1.27mm, IPC High Density)
footprint INF-PG-DSO-8-24_M (SOP, 8-Leads, Body 4.9x3.9mm, Pitch 1.27mm, IPC Low Density)
pins: 1 GND (power) "Logic ground", 2 IN (in) "Input, activates the power switch in case of logic high signal", 3 OUT (power) "Output to the load", 4 NC "not connected", 5 VBB (power) "Positive power supply voltage", 6 VBB (power) "Positive power supply voltage", 7 VBB (power) "Positive power supply voltage", 8 VBB (power) "Positive power supply voltage"

## ITS41K0S-ME-N
designator U?
Smart High-Side NMOS-Power Switch, 4.9 to 60 V Operating, -40 to 125 degC, SOT223, Reel, Green; Manufacturer: Infineon; PartNumber: ITS41K0S-ME-N; Channels: 1; Green: TRUE; IL (nom)min - all channels active: 0.2 A; IL (SC): 0.7 A; IL (SCp): 0.9 A; Operating Voltage Range (max): 60 V; Operating Voltage Range (min): 4.9 V; Ptot (max): 1.7 W; RON (max) @ Tj max: 3,000 mOhm; RON @ 25 degC: 1500 mOhm (max); toff (max): 140 us; ton (max): 100 us; DatasheetVersion: Rev. 1.0; PackageVersion: Apr-08; PackageReference: SOT223; PackageDescription: 4-Pin Small Outline Transistor Package, 6.5 x 3.5 mm Body, 2.3 mm Pitch; Supplier 1: Digi-Key; Supplier Part Number 1: ITS41K0S-ME-NTR-ND; Supplier 2: Digi-Key; Supplier Part Number 2: ITS41K0S-ME-NCT-ND; Supplier 3: Digi-Key; Supplier Part Number 3: ITS41K0S-ME-NDKR-ND; IL (nom)min - one channel active: 0.2 A; Load Current (typ): 0.2 A; Packing: Reel; Mounting Technology: Surface Mount; ComponentLink1Description: Manufacturer URL; ComponentLink1URL: http://www.infineon.com/; ComponentLink2Description: Datasheet; ComponentLink2URL: http://www.infineon.com/dgdl/ITS41k0S-ME-N_01092012S.pdf?folderId=db3a304412b407950112b408e8c90004&fileId=db3a304339dcf4b1013a013d2fb0573d; ComponentLink3Description: Package Specification; ComponentLink3URL: http://www.infineon.com/dgdl/SOT223-Package_Overview.pdf?folderId=db3a30431936bc4b0119530470b03c3d&fileId=db3a30431936bc4b0119531d40b93c5c
footprint INF-SOT223_N (SOT223, 4-Leads, Body 6.5x3.5mm, Pitch 2.3mm, IPC Medium Density)
footprint INF-SOT223_L (SOT223, 4-Leads, Body 6.5x3.5mm, Pitch 2.3mm, IPC High Density)
footprint INF-SOT223_M (SOT223, 4-Leads, Body 6.5x3.5mm, Pitch 2.3mm, IPC Low Density)
pins: 1 IN (in) "Input, activates the power switch in case of connection to GND", 2 VS (power) "Supply voltage", 3 OUT (power) "Output to the load", 4 VS (power) "Supply voltage"

## ITS410E2
designator U?
Smart Highside Power Switch for Industrial Applications, -30 to 85 degC, PG-TO220-5-3, Tube, Green; Manufacturer: Infineon; PartNumber: ITS410E2; Diagnostic: Digital; Green: TRUE; Ptot (max): 50 W; PackageVersion: Dec-09; PackageReference: PG-TO220-5-3; PackageDescription: 5-Pin Plastic (Green) Transistor Single Outline Package, 9.9 x 9.2 mm Body, 1.7 mm Pitch; Supplier 1: Mouser; Supplier Part Number 1: 726-ITS410E2; Supplier 2: Farnell; Supplier Part Number 2: 1426194; Supplier 3: Digi-Key; Supplier Part Number 3: ITS410E2-ND; Halogen-free: FALSE; Mounting Technology: Through Hole; ComponentLink1Description: Manufacturer URL; ComponentLink1URL: http://www.infineon.com/; ComponentLink2Description: Datasheet; ComponentLink2URL: http://www.infineon.com/dgdl/ITS410E2_20060328.pdf?folderId=db3a304412b407950112b408e8c90004&fileId=db3a304412b407950112b428ca8b3e79; ComponentLink3Description: Package Specification; ComponentLink3URL: http://www.infineon.com/dgdl/BTS244Z_DS_13.pdf?folderId=db3a3043163797a6011667aa084c0e01&fileId=db3a30432239cccd0123050be0506f14&location=en.Products.Automotive_ICs.Smart_High-_and_Low-Side_Switches.HITFET___TEMPFET__-_Smart_Low-Side_Switches.DATASHEET.BTS244Z_DS_13.pdf
footprint INF-PG-TO220-5-3 (FM, 5-Leads, Body 9.9x4.4mm, Pitch 1.7mm)
pins: 1 GND (power) "ground", 2 IN (in) "activates the power switch in case of logical high signal", 3 VBB (power) "Positive power supply voltage, the tab is shorted to this pin", 4 ST (oc) "Diagnostic feedback, low on failure", 5 OUT (Load, L) (power) "Output to the load"

## ITS428L2
designator U?
Smart High-Side Power Switch for Industrial Applications 1 Channel: 60 mOhm Status Feedback, 4.75 to 41 V Operating, -30 to 85 degC, PG-TO252-5-11, Reel, Green; Manufacturer: Infineon; PartNumber: ITS428L2; Channels: 1; Diagnostic: Digital; Green: TRUE; IL (nom)min - all channels active: 5.8 A; IL (SC): 22 A; Operating Voltage Range (max): 41 V; Operating Voltage Range (min): 4.75 V; Ptot (max): 75 W; RON (max) @ Tj max: 120 mOhm; RON @ 25 degC: 60 mOhm (max); toff (max): 200 us; DatasheetVersion: Rev. 1.1; PackageVersion: Nov-10; PackageReference: PG-TO252-5-11; PackageDescription: 5-Pin Plastic (Green) Transistor Single Outline Package, 6.5 x 6.12 mm Body, 1.14 mm Pitch; Supplier 1: Mouser; Supplier Part Number 1: 726-ITS428L2; Supplier 2: Newark; Supplier Part Number 2: 58M7532; Supplier 3: Farnell; Supplier Part Number 3: 1426195; Supplier 4: Farnell; Supplier Part Number 4: 1426195RL; Supplier 5: Digi-Key; Supplier Part Number 5: ITS428L2TR-ND; Supplier 6: Digi-Key; Supplier Part Number 6: ITS428L2CT-ND; Supplier 7: Digi-Key; Supplier Part Number 7: ITS428L2DKR-ND; Halogen-free: TRUE; IL (nom)min - one channel active: 5.8 A; IL (SCp): 22 A; Load Current (typ): 5.8 A; Packing: Reel; ton (max): 200 us; Mounting Technology: Surface Mount; ComponentLink1Description: Manufacturer URL; ComponentLink1URL: http://www.infineon.com/; ComponentLink2Description: Datasheet; ComponentLink2URL: http://www.infineon.com/dgdl/ITS428L2_DS11_20081010.pdf?folderId=db3a304314dca389011537739e37155f&fileId=db3a30431c69a49d011cdcc9a1fd41df; ComponentLink3Description: Package Specification; ComponentLink3URL: http://www.infineon.com/dgdl/TLE7276-Data+Sheet-+v1_11.pdf?folderId=db3a304412b407950112b408e8c90004&fileId=db3a304412b407950112b436c53f66c8&sId=db3a30433db6f09f013dc0e43c0428c1
footprint INF-PG-TO252-5-11_N (DPAK, 5-Leads, Body 6.5x6.12mm, Pitch 1.14mm, IPC Medium Density)
footprint INF-PG-TO252-5-11_L (DPAK, 5-Leads, Body 6.5x6.12mm, Pitch 1.14mm, IPC High Density)
footprint INF-PG-TO252-5-11_M (DPAK, 5-Leads, Body 6.5x6.12mm, Pitch 1.14mm, IPC Low Density)
pins: 1 GND (power) "Logic ground", 2 IN (in) "Input,activates the power switch in case of logical high signal", 3 VBB (power) "Positive power supply voltage the tab is shorted to pin 3", 4 ST (in) "Diagnostic feedback,low on failure", 5 OUT (power) "Output to the load"

## ITS436L2S
designator U?
Smart Highside Power Switch for Industrial Applications, -30 to 85 degC, PG-TO220-5-12, Tube, Green; Manufacturer: Infineon; PartNumber: ITS436L2S; Diagnostic: Digital; Green: TRUE; Ptot (max): 75 W; PackageVersion: Oct-07; PackageReference: PG-TO220-5-12; PackageDescription: 5-Pin Plastic (Green) Transistor Single Outline Package, 10 x 9.25 mm Body, 1.7 mm Pitch; Supplier 1: Mouser; Supplier Part Number 1: 726-ITS436L2S; Supplier 2: Farnell; Supplier Part Number 2: 1426196; Supplier 3: Digi-Key; Supplier Part Number 3: ITS436L2S-ND; Halogen-free: FALSE; Mounting Technology: Through Hole; ComponentLink1Description: Manufacturer URL; ComponentLink1URL: http://www.infineon.com/; ComponentLink2Description: Datasheet; ComponentLink2URL: http://www.infineon.com/dgdl/ITS436L2_20060328.pdf?folderId=db3a304412b407950112b408e8c90004&fileId=db3a304412b407950112b428cd263e7d; ComponentLink3Description: Package Specification; ComponentLink3URL: http://www.infineon.com/dgdl/TLE4276_DS_27.pdf?folderId=db3a304318f3fe290118f5a433570040&fileId=db3a30431c48a312011c5093e2fe003f&sId=db3a30443d67b5ca013d81e346312d68
footprint INF-PG-TO220-5-12 (FM, 5-Leads, Body 10x4.4mm, Pitch 1.7mm)
pins: 1 GND (power) "Logic ground", 2 IN (in) "Input, activates the power switch in case of logical high signal", 3 VBB (power) "Positive power supply voltage The tab is shorted to pin 3", 4 ST (oc) "Diagnostic feedback, low on failure", 5 OUT (power) "Output to the load"

## ITS612N1
designator U?
Smart Two Channel Highside Power Switch for Industrial Applications, -30 to 85 degC, PG-TO220-7-3, Tube, Green; Manufacturer: Infineon; PartNumber: ITS612N1; Diagnostic: Digital; Green: TRUE; Ptot (max): 36 W; PackageVersion: Jul-09; PackageReference: PG-TO220-7-3; PackageDescription: 7-Pin Plastic (Green) Transistor Single Outline Package, 9.9 x 9.2 mm Body, 1.27 mm Pitch; Supplier 1: Mouser; Supplier Part Number 1: 726-ITS612N1; Supplier 2: Farnell; Supplier Part Number 2: 1426198; Supplier 3: Digi-Key; Supplier Part Number 3: ITS612N1-ND; Halogen-free: FALSE; Mounting Technology: Through Hole; ComponentLink1Description: Manufacturer URL; ComponentLink1URL: http://www.infineon.com/; ComponentLink2Description: Datasheet; ComponentLink2URL: http://www.infineon.com/dgdl/ITS612N1_20060328.pdf?folderId=db3a304412b407950112b408e8c90004&fileId=db3a304412b407950112b428d9203e94; ComponentLink3Description: Package Specification; ComponentLink3URL: http://www.infineon.com/dgdl/BTS282Z_DS_12.pdf?folderId=db3a3043163797a6011667aa084c0e01&fileId=db3a30432239cccd0123050dbba16f1a&location=en.Products.Automotive_ICs.Smart_High-_and_Low-Side_Switches.HITFET___TEMPFET__-_Smart_Low-Side_Switches.DATASHEET.BTS282Z_DS_12.pdf
footprint INF-PG-TO220-7-3 (FM, 7-Leads, Body 9.9x4.4mm, Pitch 1.27mm)
pins: 1 OUT1 (Load, L) (power) "Output 1, protected high-side power output of channel 1", 2 GND (power) "Logic ground", 3 IN1 (in) "Input 1, activates channel 1 in case of logical high signal", 4 VBB (power) "Positive power supply voltage, the tab is shorted to this pin", 5 ST (oc) "Diagnostic feedback: open drain, low on failure", 6 IN2 (in) "Input 2, activates channel 2 in case of logical high signal", 7 OUT2 (Load, L) (power) "Output 2, protected high-side power output of channel 2"

## ITS621L1
designator U?
Smart Two Channel Highside Power Switch for Industrial Applications, -30 to 85 degC, PG-TO220-7-3, Tube, Green; Manufacturer: Infineon; PartNumber: ITS621L1; Diagnostic: Digital; Green: TRUE; Ptot (max): 75 W; PackageVersion: Jul-09; PackageReference: PG-TO220-7-3; PackageDescription: 7-Pin Plastic (Green) Transistor Single Outline Package, 9.9 x 9.2 mm Body, 1.27 mm Pitch; Supplier 1: Mouser; Supplier Part Number 1: 726-ITS621L1; Supplier 2: Newark; Supplier Part Number 2: 58M7537; Supplier 3: Farnell; Supplier Part Number 3: 1426200; Supplier 4: Digi-Key; Supplier Part Number 4: ITS621L1-ND; Halogen-free: FALSE; Mounting Technology: Through Hole; ComponentLink1Description: Manufacturer URL; ComponentLink1URL: http://www.infineon.com/; ComponentLink2Description: Datasheet; ComponentLink2URL: http://www.infineon.com/dgdl/ITS621L1_20060328.pdf?folderId=db3a304412b407950112b408e8c90004&fileId=db3a304412b407950112b428c58f3e71; ComponentLink3Description: Package Specification; ComponentLink3URL: http://www.infineon.com/dgdl/BTS282Z_DS_12.pdf?folderId=db3a3043163797a6011667aa084c0e01&fileId=db3a30432239cccd0123050dbba16f1a&location=en.Products.Automotive_ICs.Smart_High-_and_Low-Side_Switches.HITFET___TEMPFET__-_Smart_Low-Side_Switches.DATASHEET.BTS282Z_DS_12.pdf
footprint INF-PG-TO220-7-3 (FM, 7-Leads, Body 9.9x4.4mm, Pitch 1.27mm)
pins: 1 OUT1 (Load, L) (power) "Output 1, protected high-side power output of channel 1", 2 GND (power) "Logic ground", 3 IN1 (in) "Input 1, activates channel 1 in case of logical high signal", 4 VBB (power) "Positive power supply voltage, the tab is shorted to this pin", 5 ST (oc) "Diagnostic feedback: open drain, low on failure", 6 IN2 (in) "Input 2, activates channel 2 in case of logical high signal", 7 OUT2 (Load, L) (power) "Output 2, protected high-side power output of channel 2"

## ITS640S2
designator U?
Smart Sense High-Side Power Switch for Industrial Applications, -30 to 85 degC, PG-TO220-7-11, Tube, Green; Manufacturer: Infineon; PartNumber: ITS640S2; Green: TRUE; Ptot (max): 85 W; PackageVersion: Jul-07; PackageReference: PG-TO220-7-11; PackageDescription: 7-Pin Plastic (Green) Transistor Single Outline Package, 10 x 9.25 mm Body, 1.27 mm Pitch; Supplier 1: Mouser; Supplier Part Number 1: 726-ITS640S2; Supplier 2: Newark; Supplier Part Number 2: 58M7538; Supplier 3: Farnell; Supplier Part Number 3: 1426201; Supplier 4: Digi-Key; Supplier Part Number 4: ITS640S2-ND; Diagnostic: Sense; Halogen-free: FALSE; Mounting Technology: Through Hole; ComponentLink1Description: Manufacturer URL; ComponentLink1URL: http://www.infineon.com/; ComponentLink2Description: Datasheet; ComponentLink2URL: http://www.infineon.com/dgdl/ITS640S2_20060328.pdf?folderId=db3a304412b407950112b408e8c90004&fileId=db3a304412b407950112b428c80e3e75; ComponentLink3Description: Package Specification; ComponentLink3URL: http://www.infineon.com/dgdl/TLE5205-2_DS_11%5B1%5D.pdf?folderId=db3a30431b3e89eb011bb632994f065b&fileId=db3a30431f848401011fc747c7a0797f&sId=db3a30433d68e984013d7d43135b5b6a
footprint INF-PG-TO220-7-11 (FM, 7-Leads, Body 10x9.25mm, Pitch 1.27mm)
pins: 1 ST (oc) "Diagnostic feedback: open drain, invers to input level", 2 GND (power) "Logic ground", 3 IN (in) "Input, activates the power switch in case of logical high signal", 4 VBB (power) "Positive power supply voltage, the tab is shorted to this pin", 5 IS (out) "Sense current output, proportional to the load current, zero in the case of current limitation of load current", 6 OUT (Load, L) (power) "Output, protected high-side power output to the load. Both output pins have to be connected in parallel for operation according this spec (e.g. kILIS). Design the wiring for the max. short circuit current", 7 OUT (Load, L) (power) "Output, protected high-side power output to the load. Both output pins have to be connected in parallel for operation according this spec (e.g. kILIS). Design the wiring for the max. short circuit current"